# EAGLE library part SI4840-A10-GU (library MouserUseful)
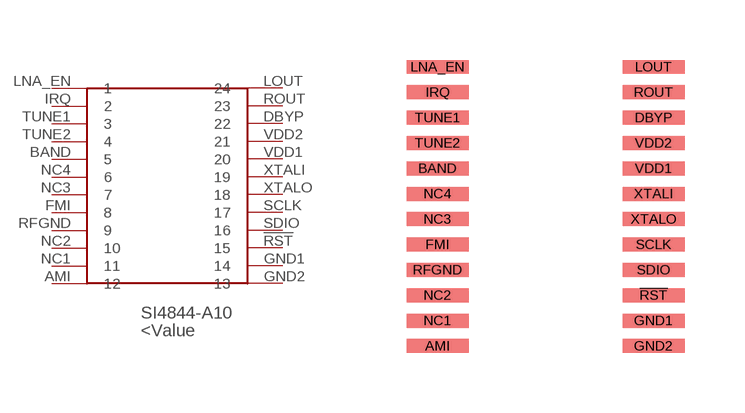
[diagram p11: symbol with the pads of SSOP; footprint SSOP]

Designator prefix SI4844-A10

## SI4840-A10-GU  [SSOP]
!RST  15
AMI  12
BAND  5
DBYP  22
FMI  8
GND1  14  pwr
GND2  13  pwr
IRQ  2
LNA_EN  1
LOUT  24
NC1  11
NC2  10
NC3  7
NC4  6
RFGND  9
ROUT  23
SCLK  17
SDIO  16
TUNE1  3
TUNE2  4
VDD1  20  pwr
VDD2  21  pwr
XTALI  19
XTALO  18

## Footprint SSOP (pad centres in mm)
smd 1.55 x 0.35: !RST 5.4,1.27; AMI 0,0; BAND 0,4.445; DBYP 5.4,5.715; FMI 0,2.54; GND1 5.4,0.635; GND2 5.4,0; IRQ 0,6.35; LNA_EN 0,6.985; LOUT 5.4,6.985; NC1 0,0.635; NC2 0,1.27; NC3 0,3.175; NC4 0,3.81; RFGND 0,1.905; ROUT 5.4,6.35; SCLK 5.4,2.54; SDIO 5.4,1.905; TUNE1 0,5.715; TUNE2 0,5.08; VDD1 5.4,4.445; VDD2 5.4,5.08; XTALI 5.4,3.81; XTALO 5.4,3.175